# Altium footprint library BM10B-SRSS-TB.PcbLib: 1 footprints
Each footprint in its own frame and in the unit in brackets; x right, y up, seen from the top. Pads: shape width x height; smd on the part's side, far side on the other; paste and mask are expansions set on the pad; w line width, h text height; cw(c..) or ccw(c..) is an arc to the next point about the centre after c.
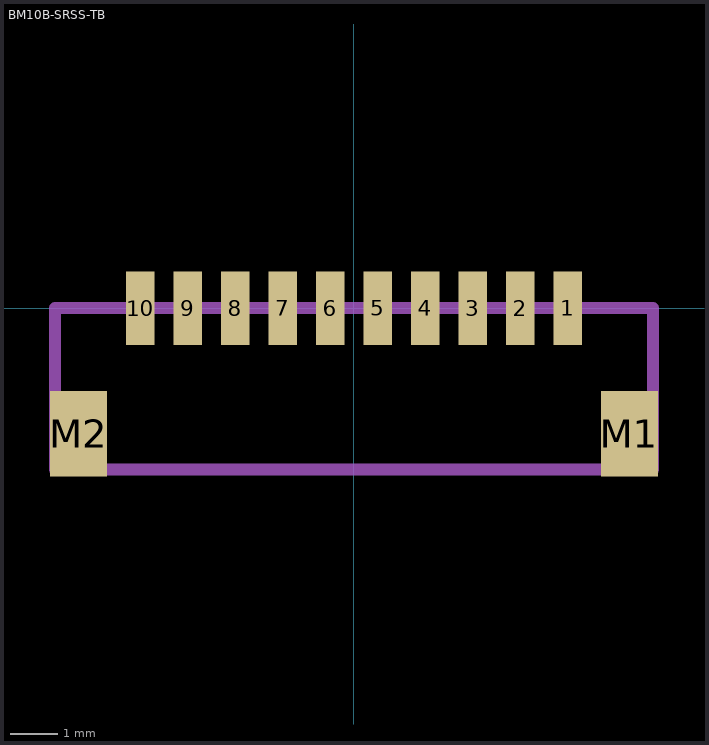
[diagram p0: the footprint, top view; thin cyan lines are the x and y axes]

## BM10B-SRSS-TB [mm]
pads (12):
  rect 0.6x1.55 smd: 1(4.5,0) 2(3.5,0) 3(2.5,0) 4(1.5,0) 5(0.5,0) 6(-0.5,0) 7(-1.5,0) 8(-2.5,0) 9(-3.5,0) 10(-4.5,0)
  rect 1.2x1.8 smd: M1(5.8,-2.65) M2(-5.8,-2.65)
Mechanical 13:
  lines w0.254: -6.3,-3.4 -6.3,0 6.3,0 6.3,-3.4 -6.3,-3.4
3D body: height 4.25, standoff 0, extent -6.3,-3.399 6.299,-0.001